# EAGLE library part AS5055 (library AS5055)
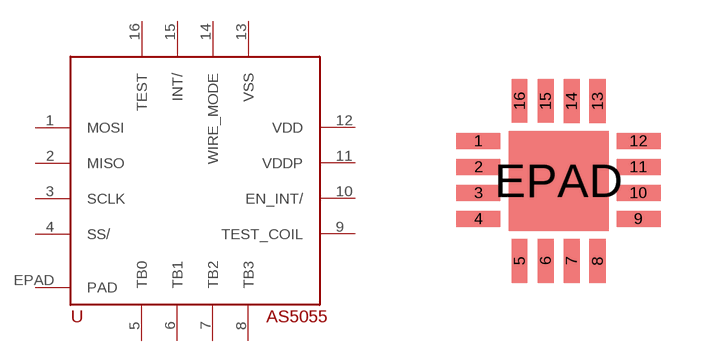
[diagram p0: symbol with the pads of AS5055; footprint AS5055]

Designator prefix -

## AS5055  [AS5055]
1  MOSI
2  MISO
3  SCLK
4  SS/
5  TB0
6  TB1
7  TB2
8  TB3
9  TEST_COIL
10  EN_INT/
11  VDDP
12  VDD
13  VSS
14  WIRE_MODE
15  INT/
16  TEST
EPAD  PAD

## Footprint AS5055 (pad centres in mm)
smd 1.1 x 0.4: 1 0,1.95; 2 0,1.3; 3 0,0.65; 4 0,0; 9 4,0; 10 4,0.65; 11 4,1.3; 12 4,1.95
smd 0.4 x 1.1: 5 1.025,-1.05; 6 1.675,-1.05; 7 2.325,-1.055; 8 2.975,-1.055; 13 2.975,2.945; 14 2.325,2.945; 15 1.675,2.95; 16 1.025,2.95
smd 2.5 x 2.5: EPAD 2,0.95